# EAGLE library part LM2678T-ADJ/NOPB (library LED_Cube_v5)
SIMPLE SWITCHER High Efficiency 5A Step-Down Voltage Regulator 7-TO-220 -40 to 125
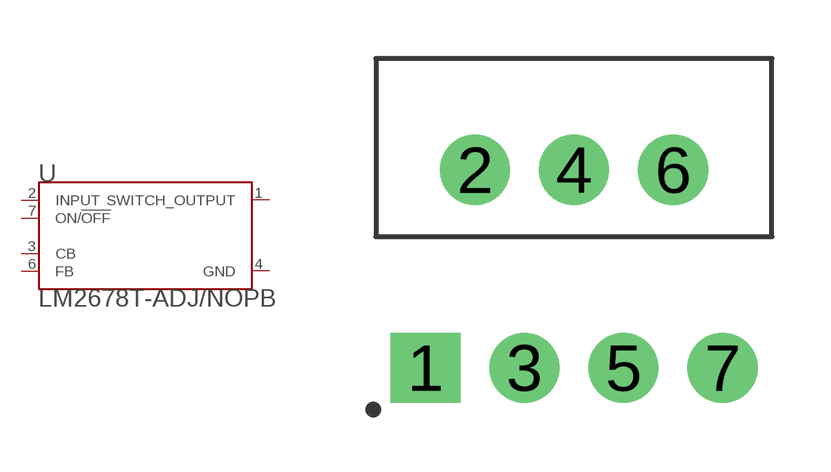
[diagram p2: symbol with the pads of TO127P1041X469X2199-7N; footprint TO127P1041X469X2199-7N]

Designator prefix U

## LM2678T-ADJ/NOPB (DESCRIPTION: 8V to 40V, 5A SIMPLE SWITCHER buck converter with high efficiency 7-TO-220 -40 to 125; DIGI-KEY_PART_NUMBER: LM2678T-ADJ/NOPB-ND; MF: Texas Instruments; MP: LM2678T-ADJ/NOPB; PACKAGE: TO-220-7 Texas Instruments; PURCHASE-URL: https://pricing.snapeda.com/search/part/LM2678T-ADJ/NOPB/?ref=eda)  [TO127P1041X469X2199-7N]
1  SWITCH_OUTPUT  out
2  INPUT  in
3  CB  in
4  GND  pwr
6  FB  in
7  ON/!OFF  in

## Footprint TO127P1041X469X2199-7N (pad centres in mm)
drill 1.2 square: 1 -3.81,-5.08
drill 1.2: 2 -2.54,0; 3 -1.27,-5.08; 4 0,0; 5 1.27,-5.08; 6 2.54,0; 7 3.81,-5.08